# EAGLE library part EC6A-D (library dc-dc-converter)
DC-DC CONVERTER CINCON EC6A - Dual Output
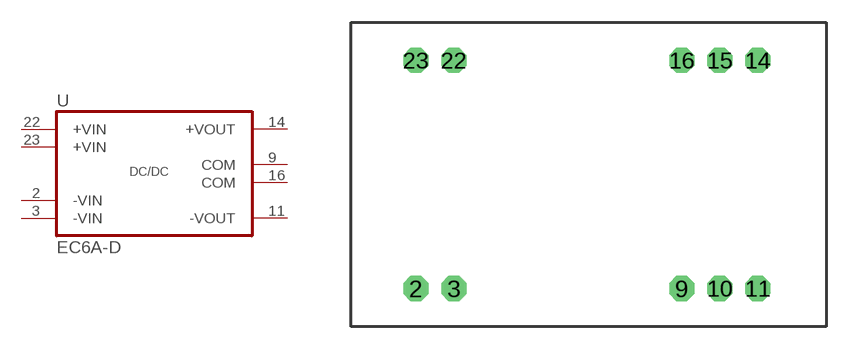
[diagram p7: symbol with the pads of EC6A; footprint EC6A]

Designator prefix U

## EC6A-D  [EC6A]
2  -VIN  pas
3  -VIN  pas
9  COM  pas
11  -VOUT  pas
14  +VOUT  pas
16  COM  pas
22  +VIN  pas
23  +VIN  pas

## Footprint EC6A (pad centres in mm)
EC6A Series - CINCON
drill 0.711 pad 1.676 octagon: 2 -11.43,-7.62; 3 -8.89,-7.62; 9 6.35,-7.62; 10 8.89,-7.62; 11 11.43,-7.62; 14 11.43,7.62; 15 8.89,7.62; 16 6.35,7.62; 22 -8.89,7.62; 23 -11.43,7.62